# EAGLE library part TXS-0102-Q1 (library dr-library)
Texas Instruments 2-bit Bi-Directional Voltage-Level Translator Open-drain and push-pull application
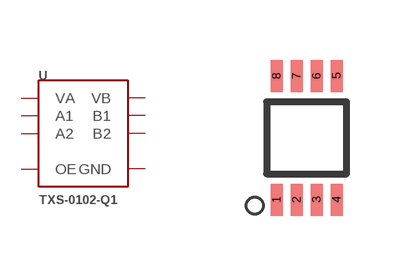
[diagram p25: symbol with the pads of VSSOP-8; footprint VSSOP-8]

Designator prefix U

## TXS-0102-Q1  [VSSOP-8]
1  B2
2  GND
3  VA
4  A2
5  A1
6  OE
7  VB
8  B1

## Footprint VSSOP-8 (pad centres in mm)
smd 0.3 x 0.8: 1 -0.75,-1.55; 2 -0.25,-1.55; 3 0.25,-1.55; 4 0.75,-1.55; 5 0.75,1.55; 6 0.25,1.55; 7 -0.25,1.55; 8 -0.75,1.55